# EAGLE library part DDR2HYNIX (library DDR2-h5PS5162ffr)
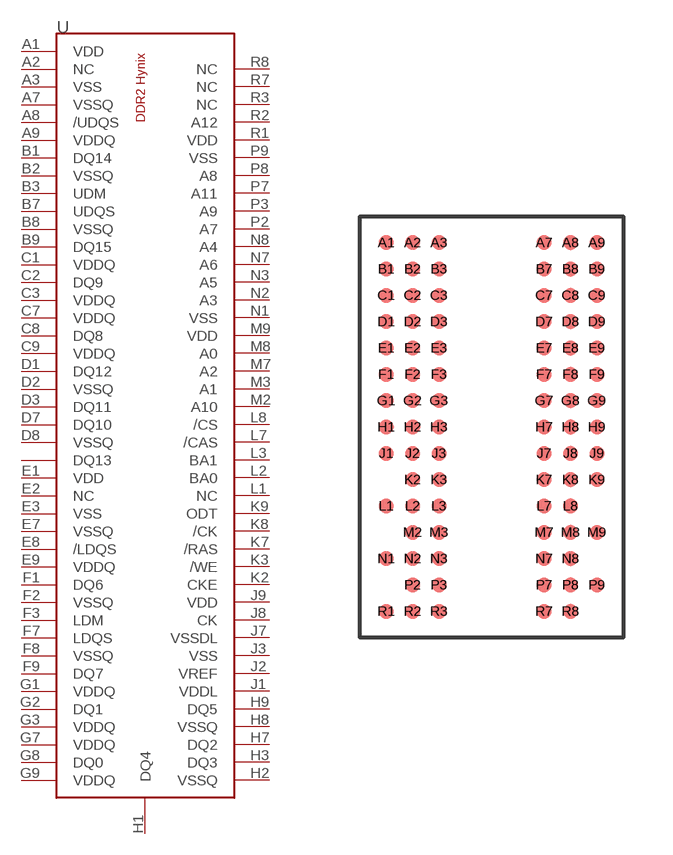
[diagram p0: symbol with the pads of BGA_H5PS5162FFR; footprint BGA_H5PS5162FFR]

Designator prefix -

## DDR2HYNIX  [BGA_H5PS5162FFR]
A1  VDD
A2  NC
A3  VSS
A7  VSSQ
A8  /UDQS
A9  VDDQ
B1  DQ14
B2  VSSQ
B3  UDM
B7  UDQS
B8  VSSQ
B9  DQ15
C1  VDDQ
C2  DQ9
C3  VDDQ
C7  VDDQ
C8  DQ8
C9  VDDQ
D1  DQ12
D2  VSSQ
D3  DQ11
D7  DQ10
D8  VSSQ
D9  DQ13
E1  VDD
E2  NC
E3  VSS
E7  VSSQ
E8  /LDQS
E9  VDDQ
F1  DQ6
F2  VSSQ
F3  LDM
F7  LDQS
F8  VSSQ
F9  DQ7
G1  VDDQ
G2  DQ1
G3  VDDQ
G7  VDDQ
G8  DQ0
G9  VDDQ
H1  DQ4
H2  VSSQ
H3  DQ3
H7  DQ2
H8  VSSQ
H9  DQ5
J1  VDDL
J2  VREF
J3  VSS
J7  VSSDL
J8  CK
J9  VDD
K2  CKE
K3  /WE
K7  /RAS
K8  /CK
K9  ODT
L1  NC
L2  BA0
L3  BA1
L7  /CAS
L8  /CS
M2  A10
M3  A1
M7  A2
M8  A0
M9  VDD
N1  VSS
N2  A3
N3  A5
N7  A6
N8  A4
P2  A7
P3  A9
P7  A11
P8  A8
P9  VSS
R1  VDD
R2  A12
R3  NC
R7  NC
R8  NC

## Footprint BGA_H5PS5162FFR (pad centres in mm)
smd 0.45 x 0.45: A1 0,11.2; A2 0.8,11.2; A3 1.6,11.2; A7 4.8,11.2; A8 5.6,11.2; A9 6.4,11.2; B1 0,10.4; B2 0.8,10.4; B3 1.6,10.4; B7 4.8,10.4; B8 5.6,10.4; B9 6.4,10.4; C1 0,9.6; C2 0.8,9.6; C3 1.6,9.6; C7 4.8,9.6; C8 5.6,9.6; C9 6.4,9.6; D1 0,8.8; D2 0.8,8.8; D3 1.6,8.8; D7 4.8,8.8; D8 5.6,8.8; D9 6.4,8.8; E1 0,8; E2 0.8,8; E3 1.6,8; E7 4.8,8; E8 5.6,8; E9 6.4,8; F1 0,7.2; F2 0.8,7.2; F3 1.6,7.2; F7 4.8,7.2; F8 5.6,7.2; F9 6.4,7.2; G1 0,6.4; G2 0.8,6.4; G3 1.6,6.4; G7 4.8,6.4; G8 5.6,6.4; G9 6.4,6.4; H1 0,5.6; H2 0.8,5.6; H3 1.6,5.6; H7 4.8,5.6; H8 5.6,5.6; H9 6.4,5.6; J1 0,4.8; J2 0.8,4.8; J3 1.6,4.8; J7 4.8,4.8; J8 5.6,4.8; J9 6.4,4.8; K2 0.8,4; K3 1.6,4; K7 4.8,4; K8 5.6,4; K9 6.4,4; L1 0,3.2; L2 0.8,3.2; L3 1.6,3.2; L7 4.8,3.2; L8 5.6,3.2; M2 0.8,2.4; M3 1.6,2.4; M7 4.8,2.4; M8 5.6,2.4; M9 6.4,2.4; N1 0,1.6; N2 0.8,1.6; N3 1.6,1.6; N7 4.8,1.6; N8 5.6,1.6; P2 0.8,0.8; P3 1.6,0.8; P7 4.8,0.8; P8 5.6,0.8; P9 6.4,0.8; R1 0,0; R2 0.8,0; R3 1.6,0; R7 4.8,0; R8 5.6,0